# Altium schematic symbol library PT65506L508.Schlib: 1 symbol
Pins are listed as number, name and electrical type; pins without a type are passive.

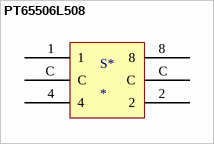
[diagram p0: symbol PT65506L508]

## PT65506L508
designator S*
Rotary Dip Switch - 16 position Hexadecimal Complement Through Hole, Right Angle Rotary with Knob Actuator 150mA 24VDC
pins: 1, 2, 4, 8, C, C